# Altium footprint library PCB_IntegratedCircuits.PcbLib: 9 footprints
Each footprint in its own frame and in the unit in brackets; x right, y up, seen from the top. Pads: shape width x height; smd on the part's side, far side on the other; paste and mask are expansions set on the pad; w line width, h text height; cw(c..) or ccw(c..) is an arc to the next point about the centre after c.
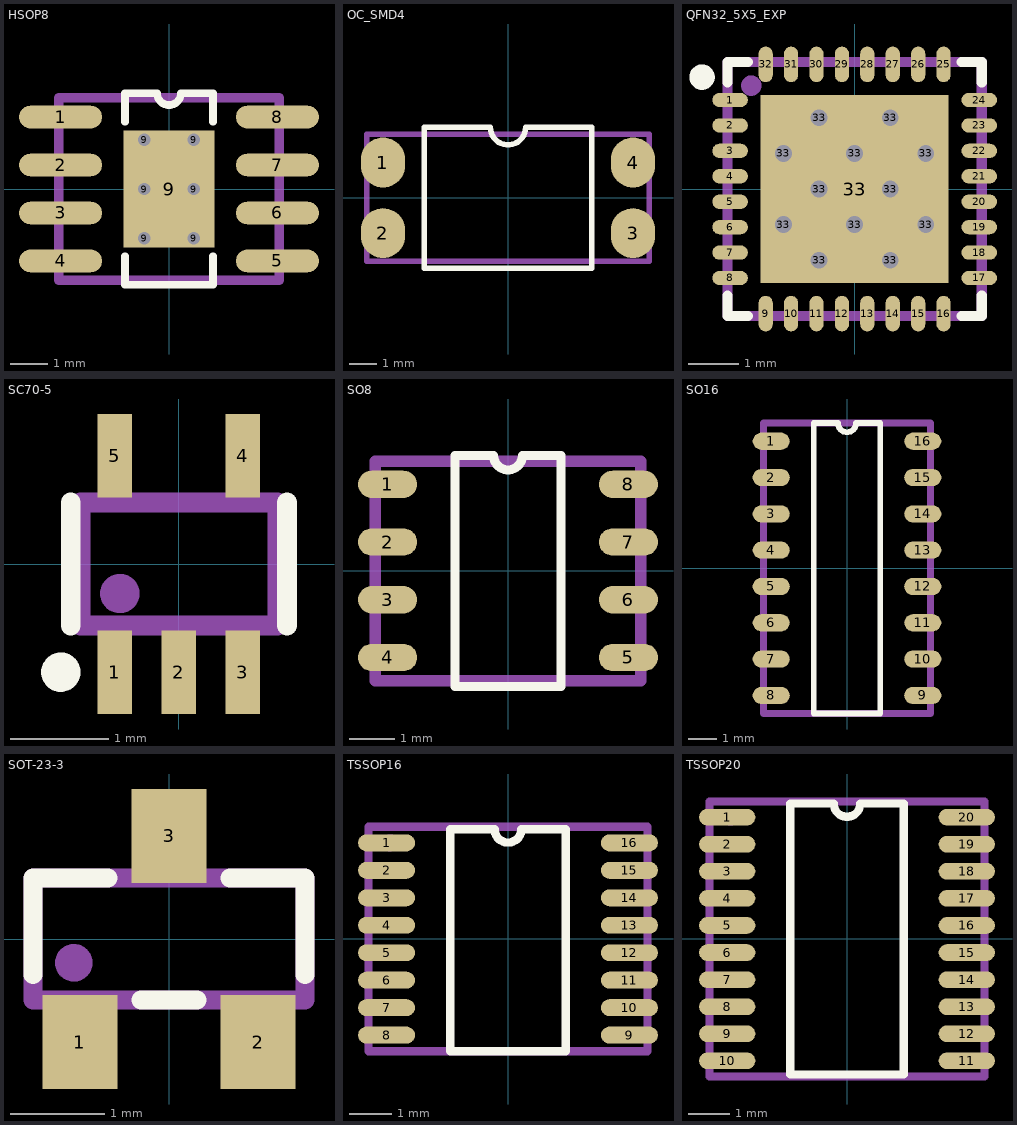
[diagram p0: the footprints below, top view; thin cyan lines are the x and y axes]

## HSOP8 [mm]
pads (15):
  oval 2.2x0.6 smd: 1(-2.87,1.905) 2(-2.87,0.635) 3(-2.87,-0.635) 4(-2.87,-1.905) 5(2.87,-1.905) 6(2.87,-0.635) 7(2.87,0.635) 8(2.87,1.905)
  round 0.33 hole 0.33 mask+0.102: 9(-0.65,-1.3) 9(-0.65,0) 9(-0.65,1.3) 9(0.65,-1.3) 9(0.65,0) 9(0.65,1.3)
  rect 2.4x3.1 smd: 9(0,0)
Top Overlay:
  lines w0.2: -1.165,-1.778 -1.165,-2.54 1.165,-2.54 1.165,-1.778 ; -1.165,1.778 -1.165,2.54 -0.318,2.54 ccw(c0,2.54) 0.318,2.54 1.165,2.54 1.165,1.778
Top Assembly:
  circle w0.2: c-2.367,1.905 r0.1
  lines w0.254: -2.921,-2.413 -2.921,2.413 2.921,2.413 2.921,-2.413 -2.921,-2.413
  text ".Designator" at -3.499,-0.233 h0.7
3D body "HSOP8.STEP": height 1.7, standoff 0, extent -3,-2.45 3,2.45

## OC_SMD4 [mm]
pads (4):
  oval 1.6x1.8 smd: 1(-4.5,1.27) 2(-4.5,-1.27) 3(4.5,-1.27) 4(4.5,1.27)
Top Overlay:
  lines w0.2: -3.015,-2.54 3.015,-2.54 3.015,2.54 0.635,2.54 cw(c0,2.54) -0.635,2.54 -3.015,2.54 -3.015,-2.54
Top Assembly:
  circle w0.2: c-4.318,1.27 r0.1
  lines w0.2: -5.08,-2.286 5.08,-2.286 5.08,2.286 -5.08,2.286 -5.08,-2.286
  text ".Designator" at -3.499,-0.233 h0.7
3D body "OC-SMD4.STEP": height 4.61, standoff 0.01, extent -5.08,-2.3 5.08,2.3

## QFN32_5X5_EXP [mm]
pads (45):
  oval 0.7x0.28 smd: 1(-2.45,1.75) 2(-2.45,1.25) 3(-2.45,0.75) 4(-2.45,0.25) 5(-2.45,-0.25) 6(-2.45,-0.75) 7(-2.45,-1.25) 8(-2.45,-1.75) 17(2.45,-1.75) 18(2.45,-1.25) 19(2.45,-0.75) 20(2.45,-0.25) 21(2.45,0.25) 22(2.45,0.75) 23(2.45,1.25) 24(2.45,1.75)
  oval 0.28x0.7 smd: 9(-1.75,-2.45) 10(-1.25,-2.45) 11(-0.75,-2.45) 12(-0.25,-2.45) 13(0.25,-2.45) 14(0.75,-2.45) 15(1.25,-2.45) 16(1.75,-2.45) 25(1.75,2.45) 26(1.25,2.45) 27(0.75,2.45) 28(0.25,2.45) 29(-0.25,2.45) 30(-0.75,2.45) 31(-1.25,2.45) 32(-1.75,2.45)
  round 0.33 hole 0.33 mask+0.102: 33(-1.4,-0.7) 33(-1.4,0.7) 33(-0.7,-1.4) 33(-0.7,0) 33(-0.7,1.4) 33(0,-0.7) 33(0,0.7) 33(0.7,-1.4) 33(0.7,0) 33(0.7,1.4) 33(1.4,-0.7) 33(1.4,0.7)
  rect 3.7x3.7 smd paste-2539.97: 33(0,0)
Top Overlay:
  circle w0.3: c-3,2.2 r0.1
  lines w0.2: -2.5,-2.1 -2.5,-2.5 -2.1,-2.5 ; -2.5,2.1 -2.5,2.5 -2.1,2.5 ; 2.1,-2.5 2.5,-2.5 2.5,-2.1 ; 2.1,2.5 2.5,2.5 2.5,2.1
Top Paste:
  rectangle: 0.95,-1.85 1.85,-0.95
  rectangle: -0.45,-1.85 0.45,-0.95
  rectangle: -1.85,-1.85 -0.95,-0.95
  rectangle: 0.95,0.95 1.85,1.85
  rectangle: -0.45,0.95 0.45,1.85
  rectangle: -1.85,0.95 -0.95,1.85
  rectangle: 0.95,-0.45 1.85,0.45
  rectangle: -0.45,-0.45 0.45,0.45
  rectangle: -1.85,-0.45 -0.95,0.45
Top Assembly:
  circle w0.2: c-2.032,2.032 r0.1
  lines w0.2: -2.5,-2.5 -2.5,2.5 2.5,2.5 2.5,-2.5 -2.5,-2.5
  text ".Designator" at -3.499,-0.233 h0.7
3D body "QFN32_5X5_EXP.STEP": height 0.91, standoff 0.01, extent -2.5,-2.5 2.5,2.5

## SC70-5 [mm]
pads (5):
  rect 0.35x0.85 smd: 1(-0.65,-1.1) 2(0,-1.1) 3(0.65,-1.1) 4(0.65,1.1) 5(-0.65,1.1)
Top Overlay:
  circle w0.2: c-1.2,-1.1 r0.1
  lines w0.2: -1.1,-0.625 -1.1,0.625 ; 1.1,-0.625 1.1,0.625
Top Assembly:
  circle w0.2: c-0.6,-0.3 r0.1
  rectangle: -0.8,0.7 -0.5,1.2
  rectangle: 0.5,0.7 0.8,1.2
  rectangle: -0.15,-1.2 0.15,-0.7
  rectangle: 0.5,-1.2 0.8,-0.7
  rectangle: -0.8,-1.2 -0.5,-0.7
  lines w0.2: -1,-0.625 1,-0.625 1,0.625 -1,0.625 -1,-0.625
  text ".Designator" at -3.245,-0.233 h0.7
3D body "SC70-5.STEP": height 1.1, standoff 0, extent -1,-1.05 1,1.05

## SO8 [mm]
pads (8):
  oval 1.3x0.6 smd: 1(-2.65,1.905) 2(-2.65,0.635) 3(-2.65,-0.635) 4(-2.65,-1.905) 5(2.65,-1.905) 6(2.65,-0.635) 7(2.65,0.635) 8(2.65,1.905)
Top Overlay:
  lines w0.2: -1.165,-2.54 -1.165,2.54 -0.318,2.54 ccw(c0,2.54) 0.318,2.54 1.165,2.54 1.165,-2.54 -1.165,-2.54
Top Assembly:
  circle w0.2: c-2.367,1.905 r0.1
  lines w0.254: -2.921,-2.413 2.921,-2.413 2.921,2.413 -2.921,2.413 -2.921,-2.413
  text ".Designator" at -3.499,-0.233 h0.7
3D body "SO8.STEP": height 1.75, standoff 0, extent -3,-2.45 3,2.45

## SO16 [mm]
pads (16):
  oval 1.3x0.6 smd: 1(-2.65,4.445) 2(-2.65,3.175) 3(-2.65,1.905) 4(-2.65,0.635) 5(-2.65,-0.635) 6(-2.65,-1.905) 7(-2.65,-3.175) 8(-2.65,-4.445) 9(2.65,-4.445) 10(2.65,-3.175) 11(2.65,-1.905) 12(2.65,-0.635) 13(2.65,0.635) 14(2.65,1.905) 15(2.65,3.175) 16(2.65,4.445)
Top Overlay:
  lines w0.2: -1.165,-5.08 1.165,-5.08 1.165,5.08 0.318,5.08 cw(c0,5.08) -0.318,5.08 -1.165,5.08 -1.165,-5.08
Top Assembly:
  circle w0.2: c-2.367,4.445 r0.1
  lines w0.254: -2.921,-5.08 2.921,-5.08 2.921,5.08 -2.921,5.08 -2.921,-5.08
  text ".Designator" at -3.499,-0.233 h0.7
3D body "SO16.STEP": height 1.8, standoff 0, extent -3,-5 3,5

## SOT-23-3 [mm]
pads (3):
  rect 0.8x1 smd: 1(-0.95,-1.1) 2(0.95,-1.1) 3(0,1.1)
Top Overlay:
  lines w0.2: -1.45,-0.381 -1.45,0.65 -0.65,0.65 ; -0.3,-0.65 0.3,-0.65 ; 0.65,0.65 1.45,0.65 1.45,-0.381
Top Assembly:
  circle w0.2: c-1.016,-0.254 r0.1
  rectangle: -0.254,0.635 0.254,1.27
  rectangle: -1.204,-1.27 -0.696,-0.635
  rectangle: 0.696,-1.27 1.204,-0.635
  lines w0.2: -1.45,-0.65 1.45,-0.65 1.45,0.65 -1.45,0.65 -1.45,-0.65
  text ".Designator" at -3.245,-0.233 h0.7
3D body "SOT-23-3.STEP": height 1.11, standoff 0.01, extent -1.45,-1.25 1.45,1.25

## TSSOP16 [mm]
pads (16):
  oval 1.35x0.4 smd: 1(-2.875,2.275) 2(-2.875,1.625) 3(-2.875,0.975) 4(-2.875,0.325) 5(-2.875,-0.325) 6(-2.875,-0.975) 7(-2.875,-1.625) 8(-2.875,-2.275) 9(2.875,-2.275) 10(2.875,-1.625) 11(2.875,-0.975) 12(2.875,-0.325) 13(2.875,0.325) 14(2.875,0.975) 15(2.875,1.625) 16(2.875,2.275)
Top Overlay:
  lines w0.2: -1.365,-2.652 -1.365,2.6 -0.318,2.6 ccw(c0,2.6) 0.318,2.6 1.365,2.6 1.365,-2.652 -1.365,-2.652
Top Assembly:
  circle w0.2: c-2.794,2.275 r0.1
  lines w0.2: -3.302,-2.652 3.302,-2.652 3.302,2.652 -3.302,2.652 -3.302,-2.652
  text ".Designator" at -3.499,-0.233 h0.7
3D body "TSSOP16.STEP": height 1.1, standoff 0, extent -3.2,-2.5 3.2,2.5

## TSSOP20 [mm]
pads (20):
  oval 1.35x0.4 smd: 1(-2.875,2.925) 2(-2.875,2.275) 3(-2.875,1.625) 4(-2.875,0.975) 5(-2.875,0.325) 6(-2.875,-0.325) 7(-2.875,-0.975) 8(-2.875,-1.625) 9(-2.875,-2.275) 10(-2.875,-2.925) 11(2.875,-2.925) 12(2.875,-2.275) 13(2.875,-1.625) 14(2.875,-0.975) 15(2.875,-0.325) 16(2.875,0.325) 17(2.875,0.975) 18(2.875,1.625) 19(2.875,2.275) 20(2.875,2.925)
Top Overlay:
  lines w0.2: -1.365,-3.25 1.365,-3.25 1.365,3.25 0.318,3.25 cw(c0,3.25) -0.318,3.25 -1.365,3.25 -1.365,-3.25
Top Assembly:
  circle w0.2: c-2.794,2.925 r0.1
  lines w0.2: -3.302,-3.302 -3.302,3.302 3.302,3.302 3.302,-3.302 -3.302,-3.302
  text ".Designator" at -3.499,-0.233 h0.7
3D body "TSSOP20.STEP": height 1.1, standoff 0, extent -3.2,-3.25 3.2,3.25